# Altium footprint library BOURNS_PTV09A-4.PcbLib: 1 footprints
Each footprint in its own frame and in the unit in brackets; x right, y up, seen from the top. Pads: shape width x height; smd on the part's side, far side on the other; paste and mask are expansions set on the pad; w line width, h text height; cw(c..) or ccw(c..) is an arc to the next point about the centre after c.
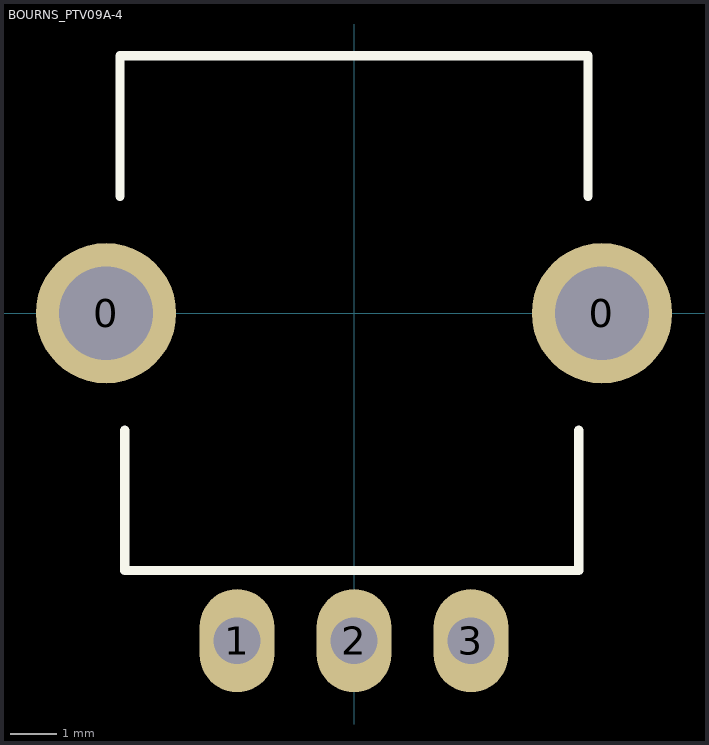
[diagram p0: the footprint, top view; thin cyan lines are the x and y axes]

## BOURNS_PTV09A-4 [mm]
pads (5):
  round 3 hole 2: 0(-5.3,0) 0(5.3,0)
  oval 1.6x2.2 hole 1: 1(-2.5,-7) 2(0,-7) 3(2.5,-7)
Top Overlay:
  lines w0.2: -5,2.5 -5,5.5 5,5.5 5,2.5 ; -4.9,-2.5 -4.9,-5.5 4.8,-5.5 4.8,-2.5
3D body: height 6.8, standoff 0, extent -5,-5.4 5,5.4
3D body: height 20, standoff 0, extent -3,-3 3,3